# Altium schematic symbol library Schlib1.SchLib: 44 symbols (part 1 of 4)
Pins are listed as number, name and electrical type; pins without a type are passive.

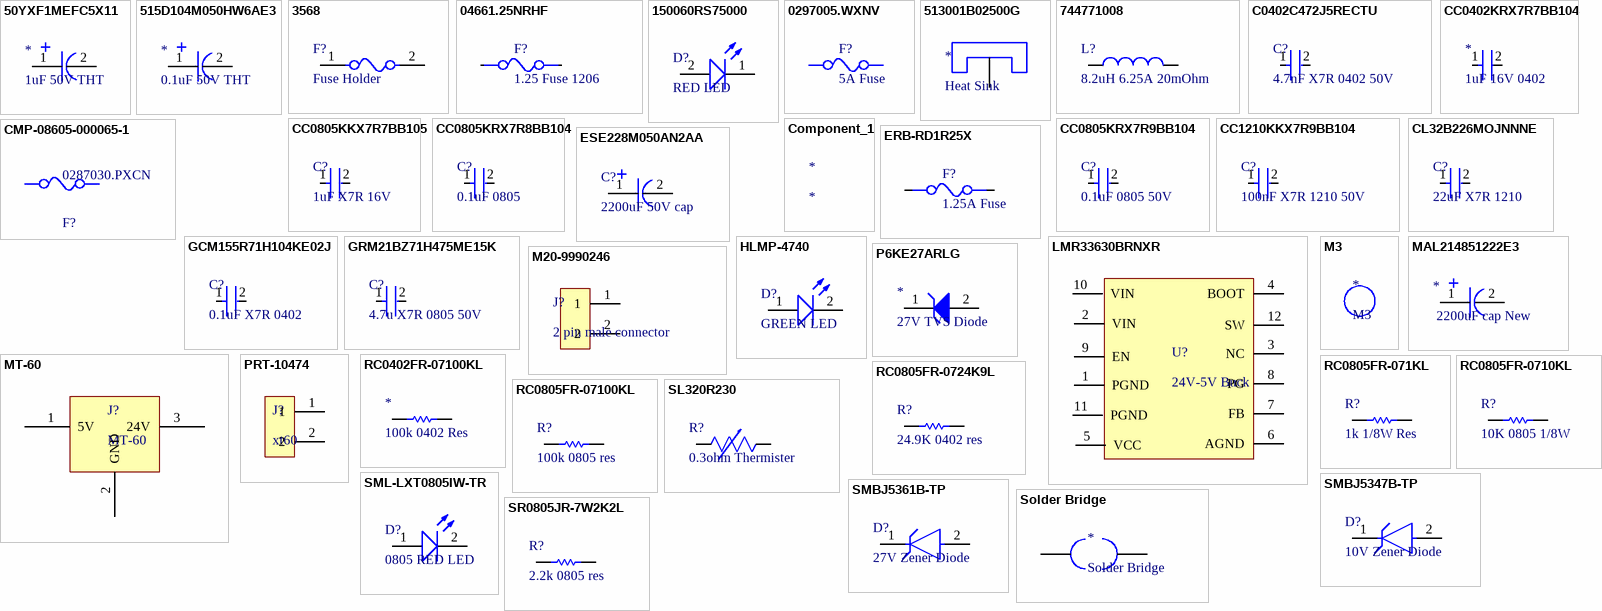
[diagram p0: symbols 50YXF1MEFC5X11 to SR0805JR-7W2K2L]

## 50YXF1MEFC5X11
designator *, comment 1uF 50V THT
1uF 50V ±20% Plugin, D5xL11mm Aluminum Electrolytic Capacitors - Leaded ROHS; Manufacturer: Rubycon; Manufacturer Part Number: 50YXF1MEFC5X11; Value: 1µF; Impedance: 4Ω; Leakage Current: 3µA; Life (Hours): 5000hours; Ripple Current: 10.5mA; Supplier: Farnell; Supplier Part Number: 50YXF1MEFC5X11; RoHS: Compliant; Category: Aluminum Electrolytic Capacitors; Pricing: 5=0.121, 50=0.082, 250=0.0753, 500=0.0664 (GBP); Case/Package: Radial; Diameter: 5mm; Height: 11mm; Height - Seated (Max): 12.4968mm; Lead Pitch: 2mm; Length: 11mm; Lifecycle Status: Obsolete; Max Operating Temperature: 105°C; Min Operating Temperature: -40°C; Mounting Technology: Through Hole; Number of Terminals: 2; Packaging: Bulk; Radiation Hardening: No; REACH SVHC: Yes; Terminal Pitch: 2mm; Termination: Radial; Tolerance: 20%; Voltage Rating: 50V; Voltage Rating (DC): 50V; ComponentLink1URL: https://datasheet.octopart.com:443/50YXF1MEFC5X11-Rubycon-datasheet-182101233.pdf?src-supplier=IHS; ComponentLink1Description: https://datasheet.octopart.com:443/50YXF1MEFC5X11-Rubycon-datasheet-182101233.pdf?src-supplier=IHS; ComponentLink2URL: https://datasheet.octopart.com:443/50YXF1MEFC5X11-Rubycon-datasheet-86451560.pdf?src-supplier=Master+Electronics; ComponentLink2Description: https://datasheet.octopart.com:443/50YXF1MEFC5X11-Rubycon-datasheet-86451560.pdf?src-supplier=Master+Electronics; ComponentLink3URL: https://datasheet.octopart.com:443/50YXF1MEFC5X11-Rubycon-datasheet-12512315.pdf?src-supplier=LKR; ComponentLink3Description: https://datasheet.octopart.com:443/50YXF1MEFC5X11-Rubycon-datasheet-12512315.pdf?src-supplier=LKR; ComponentLink4URL: https://datasheet.octopart.com:443/50YXF1MEFC5X11-Rubycon-datasheet-41194730.pdf?src-supplier=Newark; ComponentLink4Description: https://datasheet.octopart.com:443/50YXF1MEFC5X11-Rubycon-datasheet-41194730.pdf?src-supplier=Newark; ComponentLink5URL: https://datasheet.octopart.com:443/50YXF1MEFC5X11-Rubycon-datasheet-11966930.pdf?src-supplier=Newark; ComponentLink5Description: https://datasheet.octopart.com:443/50YXF1MEFC5X11-Rubycon-datasheet-11966930.pdf?src-supplier=Newark; ComponentLink6URL: https://datasheet.octopart.com:443/50YXF1MEFC5X11-Rubycon-datasheet-10032391.pdf?src-supplier=Newark; ComponentLink6Description: https://datasheet.octopart.com:443/50YXF1MEFC5X11-Rubycon-datasheet-10032391.pdf?src-supplier=Newark; ComponentLink7URL: https://datasheet.octopart.com:443/50YXF1MEFC5X11-Rubycon-datasheet-8447018.pdf?src-supplier=Newark; ComponentLink7Description: https://datasheet.octopart.com:443/50YXF1MEFC5X11-Rubycon-datasheet-8447018.pdf?src-supplier=Newark; ComponentLink8URL: https://datasheet.octopart.com:443/50YXF1MEFC5X11-Rubycon-datasheet-5377913.pdf?src-supplier=Newark; ComponentLink8Description: https://datasheet.octopart.com:443/50YXF1MEFC5X11-Rubycon-datasheet-5377913.pdf?src-supplier=Newark; ComponentLink9Description: New link; ComponentLink9URL: *; LCSC Part No: C2927584
footprint capacitor Through Hole Small
pins: 1, 2

## 515D104M050HW6AE3
designator *, comment 0.1uF 50V THT
Cap 0.1UF 50V 4X7 85C Rdl; Manufacturer: Vishay; Manufacturer Part Number: 515D104M050HW6AE3; Value: 100nF; Life (Hours): 2000hours; Polarity: Polar; Tolerance: 20%; Supplier: Avnet; Supplier Part Number: 515D104M050HW6AE3; RoHS: Compliant; Category: Aluminum Electrolytic Capacitors; Pricing: 5000=0.10011, 10000=0.09869, 20000=0.09727, 40000=0.09585, 80000=0.09479 (USD); Case/Package: Radial; Height - Seated (Max): 7.0104mm; Lead Pitch: 1.4986mm; Max Operating Temperature: 85°C; Min Operating Temperature: -40°C; Mounting Technology: Through Hole; Packaging: Bulk; Voltage Rating: 50V; ComponentLink1URL: http://sigma.octopart.com:80/rohs_statement/Vishay-company-15.pdf?src-supplier=Compliance+Statements; ComponentLink1Description: http://sigma.octopart.com:80/rohs_statement/Vishay-company-15.pdf?src-supplier=Compliance+Statements
footprint capacitor Through Hole Small
pins: 1, 2

## 3568
designator F?, comment Fuse Holder
Holder; Fuse; Auto Blade; Mini; 500VAC; 30A; PC Pin Terminal; Nylon 4/6 Holder; Black; Manufacturer: Keystone; Manufacturer Part Number: 3568; Approvals: UL; Current Rating: 20A; Illumination Type: Illuminated; Material: Brass, Nylon, Tin; Number of Circuits: 1; Voltage: 500V; Supplier: Future Electronics; Supplier Part Number: 3568; RoHS: Compliant; Category: Fuse Holders; Stock: 77707; Pricing: 30=0.74, 100=0.72, 250=0.71, 1000=0.69, 2500=0.66 (USD); Body Material: Nylon; Color: Black; Contact Material: Brass; Contact Plating: Tin; Country of Origin: USA; Depth: 6.73mm; Flammability Rating: UL94 V-0; Fuse Current: 20A; Introduction Date: 2015-08-28; Lead Free: Lead Free; Length: 16mm; Lifecycle Status: Production; Max Operating Temperature: 145°C; Min Operating Temperature: -50°C; Mounting Technology: PCB, Vertical; Number of Poles: 1; Orientation: Vertical; REACH SVHC: Yes; Termination: PC Pin; Voltage Rating (AC): 500V; ComponentLink1URL: https://datasheet.octopart.com:443/3568-Keystone-datasheet-137335555.pdf?src-supplier=Upverter; ComponentLink1Description: https://datasheet.octopart.com:443/3568-Keystone-datasheet-137335555.pdf?src-supplier=Upverter; ComponentLink2URL: https://datasheet.octopart.com:443/3568-Keystone-datasheet-15715963.pdf?src-supplier=Future+Electronics; ComponentLink2Description: https://datasheet.octopart.com:443/3568-Keystone-datasheet-15715963.pdf?src-supplier=Future+Electronics; ComponentLink3URL: https://datasheet.octopart.com:443/3568-Keystone-datasheet-7589202.pdf?src-supplier=Future+Electronics; ComponentLink3Description: https://datasheet.octopart.com:443/3568-Keystone-datasheet-7589202.pdf?src-supplier=Future+Electronics; ComponentLink4URL: https://datasheet.octopart.com:443/3568-Keystone-datasheet-137916591.pdf?src-supplier=Future+Electronics; ComponentLink4Description: https://datasheet.octopart.com:443/3568-Keystone-datasheet-137916591.pdf?src-supplier=Future+Electronics; ComponentLink5URL: https://datasheet.octopart.com:443/3568-Keystone-datasheet-21202853.pdf?src-supplier=element14+APAC; ComponentLink5Description: https://datasheet.octopart.com:443/3568-Keystone-datasheet-21202853.pdf?src-supplier=element14+APAC; ComponentLink6URL: https://datasheet.octopart.com:443/3568-Keystone-datasheet-10928834.pdf?src-supplier=RS+(Formerly+Allied+Electronics); ComponentLink6Description: https://datasheet.octopart.com:443/3568-Keystone-datasheet-10928834.pdf?src-supplier=RS+(Formerly+Allied+Electronics); ComponentLink7URL: https://datasheet.octopart.com:443/3568-Keystone-datasheet-110727069.pdf?src-supplier=RS+(Formerly+Allied+Electronics); ComponentLink7Description: https://datasheet.octopart.com:443/3568-Keystone-datasheet-110727069.pdf?src-supplier=RS+(Formerly+Allied+Electronics); ComponentLink8URL: https://datasheet.octopart.com:443/3568-Keystone-datasheet-17577430.pdf?src-supplier=TME; ComponentLink8Description: https://datasheet.octopart.com:443/3568-Keystone-datasheet-17577430.pdf?src-supplier=TME; LCSC Part No: C5249699
footprint FUSE HOLDER
pins: 1, 2

## 04661.25NRHF
designator F?, comment 1.25 Fuse 1206
Fuse 63V Fa Halogen Free Slim 1206 1.25A/ T&r Rohs Compliant: Yes |Littelfuse 04661.25NRHF; Current Rating: 1.25A; Power Dissipation: 107.1mW; Ratings: CE, CSA, TUV; Value: 57mΩ; Time to Trip: 200ms; Supplier: DigiKey; Supplier Part Number: F11418CT-ND; Manufacturer: Littelfuse; Manufacturer Part Number: 04661.25NRHF; RoHS: Compliant; Category: Fuses; Stock: 8292; Pricing: 1=1.14, 5=0.946, 10=0.873, 50=0.7246, 100=0.6685, 250=0.60084, 500=0.55408, 1000=0.51077 (USD); China RoHS: Compliant; Export Control Classification Number (ECCN) Code: EAR99; Height: 584µm; Harmonized Tariff Schedule (HTS) Code: 8536.10.00.40; Introduction Date: 2008-01-16; Length: 3.175mm; Lifecycle Status: Production; Max Operating Temperature: 90°C; Min Operating Temperature: -55°C; Mounting Technology: Surface Mount; REACH SVHC: No; Voltage Rating (AC): 63V; Voltage Rating (DC): 63V; ComponentLink1URL: https://datasheet.octopart.com:443/04661.25NRHF-Littelfuse-datasheet-166915437.pdf?src-supplier=IHS; ComponentLink1Description: https://datasheet.octopart.com:443/04661.25NRHF-Littelfuse-datasheet-166915437.pdf?src-supplier=IHS; ComponentLink2URL: https://datasheet.octopart.com:443/04661.25NRHF-Littelfuse-datasheet-120226766.pdf?src-supplier=ODG+(Origin+Data+Global); ComponentLink2Description: https://datasheet.octopart.com:443/04661.25NRHF-Littelfuse-datasheet-120226766.pdf?src-supplier=ODG+(Origin+Data+Global); ComponentLink3URL: https://datasheet.octopart.com:443/04661.25NRHF-Littelfuse-datasheet-170674135.pdf?src-supplier=JRH+Electronics; ComponentLink3Description: https://datasheet.octopart.com:443/04661.25NRHF-Littelfuse-datasheet-170674135.pdf?src-supplier=JRH+Electronics; ComponentLink4URL: https://datasheet.octopart.com:443/04661.25NRHF-Littelfuse-datasheet-178296321.pdf?src-supplier=Burklin+Elektronik; ComponentLink4Description: https://datasheet.octopart.com:443/04661.25NRHF-Littelfuse-datasheet-178296321.pdf?src-supplier=Burklin+Elektronik; ComponentLink5URL: https://datasheet.octopart.com:443/04661.25NRHF-Littelfuse-datasheet-183575681.pdf?src-supplier=Sager+Electronics; ComponentLink5Description: https://datasheet.octopart.com:443/04661.25NRHF-Littelfuse-datasheet-183575681.pdf?src-supplier=Sager+Electronics; ComponentLink6URL: https://datasheet.octopart.com:443/04661.25NRHF-Littelfuse-datasheet-24896369.pdf?src-supplier=Fuses+Unlimited; ComponentLink6Description: https://datasheet.octopart.com:443/04661.25NRHF-Littelfuse-datasheet-24896369.pdf?src-supplier=Fuses+Unlimited; LCSC Part No: C187601
footprint Fuse 1206
pins: 1, 2

## 150060RS75000
designator D?, comment RED LED
LED Low-Power Uni-Color Red 630nm 2V 2-Pin Chip 0603(1608Metric) T/R; Manufacturer: Wurth Elektronik; Manufacturer Part Number: 150060RS75000; Dominant Wavelength: 625nm; Forward Current: 100mA; Lens Style: Clear, Rectangular; Luminous Intensity: 250mcd; Max Junction Temperature (Tj): 95°C; Max Reverse Voltage (DC): 5V; Power Dissipation: 72mW; Test Current: 20mA; Viewing Angle: 140°; Supplier: DigiKey; Supplier Part Number: 732-4978-6-ND; RoHS: Compliant; Category: LEDs; Stock: 362455; Pricing: 1=0.15, 50=0.142, 100=0.1239 (USD); Case/Package: 0603; Case Code (Imperial): 0603; Case Code (Metric): 1608; Color: Red; Forward Voltage: 2V; Height: 700µm; Length: 1.6mm; Max Operating Temperature: 85°C; Min Operating Temperature: -40°C; Mounting Technology: Surface Mount; Packaging: Tape and Reel; Peak Wavelength: 630nm; REACH SVHC: Unknown; Reverse Voltage: 5V; Wavelength: 625nm; Width: 800µm; ComponentLink1URL: https://datasheet.octopart.com:443/150060RS75000-W%C3%BCrth-Elektronik-datasheet-141913886.pdf?src-supplier=Upverter; ComponentLink1Description: https://datasheet.octopart.com:443/150060RS75000-W%C3%BCrth-Elektronik-datasheet-141913886.pdf?src-supplier=Upverter; ComponentLink2URL: https://datasheet.octopart.com:443/150060RS75000-W%C3%BCrth-Elektronik-datasheet-15983787.pdf?src-supplier=Upverter; ComponentLink2Description: https://datasheet.octopart.com:443/150060RS75000-W%C3%BCrth-Elektronik-datasheet-15983787.pdf?src-supplier=Upverter; ComponentLink3URL: https://datasheet.octopart.com:443/150060RS75000-W%C3%BCrth-Elektronik-datasheet-140603451.pdf?src-supplier=Wurth+Elektronik; ComponentLink3Description: https://datasheet.octopart.com:443/150060RS75000-W%C3%BCrth-Elektronik-datasheet-140603451.pdf?src-supplier=Wurth+Elektronik; ComponentLink4URL: https://datasheet.octopart.com:443/150060RS75000-W%C3%BCrth-Elektronik-datasheet-41196438.pdf?src-supplier=Newark; ComponentLink4Description: https://datasheet.octopart.com:443/150060RS75000-W%C3%BCrth-Elektronik-datasheet-41196438.pdf?src-supplier=Newark; LCSC Part No: C19171390
footprint red led (SMD Mono-color Chip LED, body 1.60 x 0.80 mm)
pins: 1 K, 2 A

## 0297005.WXNV
designator F?, comment 5A Fuse  (mechanical)
Fuse Blade 5A 32V Socket 10.9 X 3.8 X 8.8mm Polyamide 66 Automotive UL; Manufacturer: Littelfuse; Manufacturer Part Number: 0297005.WXNV; Body Material: Thermoplastic; Color: Tan, Beige; Value: 17.75mΩ; Time to Trip: 30ms; Supplier: Arrow Electronics; Supplier Part Number: 0297005.WXNV; RoHS: Compliant; Category: Fuses; Stock: 153681; Pricing: 1=0.1604, 5=0.1552, 10=0.1324 (USD); Contact Plating: Silver; Current Rating: 5A; Depth: 3.8mm; Fuse Current: 5A; Height: 8.8mm; Lead Free: Lead Free; Length: 10.9mm; Lifecycle Status: Production; Max Operating Temperature: 125°C; Min Operating Temperature: -40°C; Mounting Technology: Holder, Socket; Pins: 2; Packaging: Bulk; Radiation Hardening: No; REACH SVHC: Yes; Voltage Rating: 32V; Voltage Rating (AC): 32V; Voltage Rating (DC): 32V; Working Voltage: 32V; ComponentLink1URL: https://datasheet.octopart.com:443/0297005.WXNV-Littelfuse-datasheet-169126209.pdf?src-supplier=IHS; ComponentLink1Description: https://datasheet.octopart.com:443/0297005.WXNV-Littelfuse-datasheet-169126209.pdf?src-supplier=IHS; ComponentLink2URL: https://datasheet.octopart.com:443/0297005.WXNV-Littelfuse-datasheet-66660011.pdf?src-supplier=Burklin+Elektronik; ComponentLink2Description: https://datasheet.octopart.com:443/0297005.WXNV-Littelfuse-datasheet-66660011.pdf?src-supplier=Burklin+Elektronik; ComponentLink3URL: https://datasheet.octopart.com:443/0297005.WXNV-Littelfuse-datasheet-8702453.pdf?src-supplier=Farnell; ComponentLink3Description: https://datasheet.octopart.com:443/0297005.WXNV-Littelfuse-datasheet-8702453.pdf?src-supplier=Farnell; ComponentLink4URL: https://datasheet.octopart.com:443/0297005.WXNV-Littelfuse-datasheet-179407513.pdf?src-supplier=Electro+Sonic; ComponentLink4Description: https://datasheet.octopart.com:443/0297005.WXNV-Littelfuse-datasheet-179407513.pdf?src-supplier=Electro+Sonic; ComponentLink5URL: https://datasheet.octopart.com:443/0297005.WXNV-Littelfuse-datasheet-135736.pdf?src-supplier=Agility; ComponentLink5Description: https://datasheet.octopart.com:443/0297005.WXNV-Littelfuse-datasheet-135736.pdf?src-supplier=Agility; ComponentLink6URL: https://datasheet.octopart.com:443/0297005.WXNV-Littelfuse-datasheet-530200.pdf?src-supplier=Newark; ComponentLink6Description: https://datasheet.octopart.com:443/0297005.WXNV-Littelfuse-datasheet-530200.pdf?src-supplier=Newark; ComponentLink7URL: https://datasheet.octopart.com:443/0297005.WXNV-Littelfuse-datasheet-28809134.pdf?src-supplier=Future+Electronics; ComponentLink7Description: https://datasheet.octopart.com:443/0297005.WXNV-Littelfuse-datasheet-28809134.pdf?src-supplier=Future+Electronics; ComponentLink8URL: https://datasheet.octopart.com:443/0297005.WXNV-Littelfuse-datasheet-184785010.pdf?src-supplier=Master+Electronics; ComponentLink8Description: https://datasheet.octopart.com:443/0297005.WXNV-Littelfuse-datasheet-184785010.pdf?src-supplier=Master+Electronics; ComponentLink9URL: https://datasheet.octopart.com:443/0297005.WXNV-Littelfuse-datasheet-43098904.pdf?src-supplier=RS+(Formerly+Allied+Electronics); ComponentLink9Description: https://datasheet.octopart.com:443/0297005.WXNV-Littelfuse-datasheet-43098904.pdf?src-supplier=RS+(Formerly+Allied+Electronics); ComponentLink10URL: https://datasheet.octopart.com:443/0297005.WXNV-Littelfuse-datasheet-33028620.pdf?src-supplier=RS+(Formerly+Allied+Electronics); ComponentLink10Description: https://datasheet.octopart.com:443/0297005.WXNV-Littelfuse-datasheet-33028620.pdf?src-supplier=RS+(Formerly+Allied+Electronics); ComponentLink11URL: https://datasheet.octopart.com:443/0297005.WXNV-Littelfuse-datasheet-49878456.pdf?src-supplier=TME; ComponentLink11Description: https://datasheet.octopart.com:443/0297005.WXNV-Littelfuse-datasheet-49878456.pdf?src-supplier=TME; ComponentLink12URL: https://datasheet.octopart.com:443/0297005.WXNV-Littelfuse-datasheet-817.pdf?src-supplier=DigiKey; ComponentLink12Description: https://datasheet.octopart.com:443/0297005.WXNV-Littelfuse-datasheet-817.pdf?src-supplier=DigiKey; LCSC Part No: C151093
footprint 5A Fuse

## 513001B02500G
designator *, comment Heat Sink  (mechanical)
TO-220 Package 13.4 C/W Thermal Resistance Large Radial Fin Heat Sink; Manufacturer: Aavid Thermalloy; Manufacturer Part Number: 513001B02500G; Natural Thermal Resistance: 13.4°C/W; Shape: Fins, Rectangular; Thermal Resistance @ Forced Air Flow (100 LFM): 4°C/W; Supplier: Mouser; Supplier Part Number: 532-513001B25G; RoHS: Compliant; Category: Heat Sinks; Stock: 6491; Pricing: 1=1.68, 10=1.53, 50=1.45, 100=1.37, 1000=1.09, 10000=1.08 (USD); Case/Package: TO-218; Color: Black; Depth: 12.7mm; Export Control Classification Number (ECCN) Code: EAR99; Height: 25.4mm; Height Off Base: 12.7mm; Harmonized Tariff Schedule (HTS) Code: 8541.90.00.00; Introduction Date: 2012-05-15; Lead Free: Lead Free; Length: 34.92mm; Lifecycle Status: Production; Material: Aluminium, Anodized; Mounting Technology: Through Hole; Packaging: Box; Type: Passive; Width: 12.7mm; ComponentLink1URL: https://datasheet.octopart.com:443/513001B02500G-Aavid-Thermalloy-datasheet-111182914.pdf?src-supplier=IHS; ComponentLink1Description: https://datasheet.octopart.com:443/513001B02500G-Aavid-Thermalloy-datasheet-111182914.pdf?src-supplier=IHS; ComponentLink2URL: https://datasheet.octopart.com:443/513001B02500G-Aavid-Thermalloy-datasheet-182190711.pdf?src-supplier=IHS; ComponentLink2Description: https://datasheet.octopart.com:443/513001B02500G-Aavid-Thermalloy-datasheet-182190711.pdf?src-supplier=IHS; ComponentLink3URL: https://datasheet.octopart.com:443/513001B02500G-Aavid-Thermalloy-datasheet-116638641.pdf?src-supplier=Sager+Electronics; ComponentLink3Description: https://datasheet.octopart.com:443/513001B02500G-Aavid-Thermalloy-datasheet-116638641.pdf?src-supplier=Sager+Electronics; ComponentLink4URL: https://datasheet.octopart.com:443/513001B02500G-Aavid-Thermalloy-datasheet-12547168.pdf?src-supplier=Future+Electronics; ComponentLink4Description: https://datasheet.octopart.com:443/513001B02500G-Aavid-Thermalloy-datasheet-12547168.pdf?src-supplier=Future+Electronics; ComponentLink5URL: https://datasheet.octopart.com:443/513001B02500G-Aavid-Thermalloy-datasheet-12511871.pdf?src-supplier=Future+Electronics; ComponentLink5Description: https://datasheet.octopart.com:443/513001B02500G-Aavid-Thermalloy-datasheet-12511871.pdf?src-supplier=Future+Electronics; ComponentLink6URL: http://sigma.octopart.com:80/conflict_mineral_statement/Aavid-Thermalloy-company-26.pdf?src-supplier=Compliance+Statements; ComponentLink6Description: http://sigma.octopart.com:80/conflict_mineral_statement/Aavid-Thermalloy-company-26.pdf?src-supplier=Compliance+Statements
footprint Heat Sink
pins: 1

## 744771008
designator L?, comment 8.2uH 6.25A 20mOhm
Power Inductor, SMT, 1260, 8.2 Uh, 6.25 A, .02 Ohm, Fixed, We-pd Series; Manufacturer: Wurth Elektronik; Manufacturer Part Number: 744771008; Core Material: Ferrite; Current Rating: 6.2A; DC Resistance (DCR): 15.5mΩ; Value: 8.2µH; Inductance Tolerance: 20%; Self Resonant Frequency: 25MHz; ESR: 20mΩ; Shielding: Shielded; Test Frequency: 1kHz; Supplier: DigiKey; Supplier Part Number: 732-1207-1-ND; RoHS: Compliant; Category: Fixed Inductors; Stock: 330; Pricing: 1=2.26, 10=2.172, 50=1.961, 100=1.759, 250=1.61 (USD); Ambient Temperature Range High: 85°C; Ambient Temperature Range Low: -40°C; Case/Package: Nonstandard; Composition: Wirewound; Depth: 12mm; Height: 6mm; Height - Seated (Max): 5.9944mm; Lead Free: Lead Free; Length: 12mm; Max DC Current: 6.25A; Max Operating Temperature: 125°C; Min Operating Temperature: -40°C; Mounting Technology: Surface Mount; Pins: 2; RMS Current (Irms): 6.25A; Saturation Current: 6.2A; Termination: SMD/SMT; Tolerance: 20%; Weight: 4.535924g; Width: 12mm; ComponentLink1URL: https://datasheet.octopart.com:443/744771008-Wurth-Elektronik-datasheet-168492728.pdf?src-supplier=Wurth+Elektronik; ComponentLink1Description: https://datasheet.octopart.com:443/744771008-Wurth-Elektronik-datasheet-168492728.pdf?src-supplier=Wurth+Elektronik; ComponentLink2URL: https://datasheet.octopart.com:443/744771008-W%C3%BCrth-Elektronik-datasheet-142051527.pdf?src-supplier=Farnell; ComponentLink2Description: https://datasheet.octopart.com:443/744771008-W%C3%BCrth-Elektronik-datasheet-142051527.pdf?src-supplier=Farnell; ComponentLink3URL: https://datasheet.octopart.com:443/744771008-W%C3%BCrth-Elektronik-Midcom-datasheet-5337310.pdf?src-supplier=Farnell; ComponentLink3Description: https://datasheet.octopart.com:443/744771008-W%C3%BCrth-Elektronik-Midcom-datasheet-5337310.pdf?src-supplier=Farnell; ComponentLink4URL: https://datasheet.octopart.com:443/744771008-W%C3%BCrth-Elektronik-datasheet-17695912.pdf?src-supplier=HQonline; ComponentLink4Description: https://datasheet.octopart.com:443/744771008-W%C3%BCrth-Elektronik-datasheet-17695912.pdf?src-supplier=HQonline; ComponentLink5URL: https://datasheet.octopart.com:443/744771008-W%C3%BCrth-Elektronik-datasheet-41343275.pdf?src-supplier=element14+APAC; ComponentLink5Description: https://datasheet.octopart.com:443/744771008-W%C3%BCrth-Elektronik-datasheet-41343275.pdf?src-supplier=element14+APAC; LCSC Part No: C504027
footprint inductor (SMT Shielded Power Inductor, 2-leads, body 12x12mm)
pins: 1, 2

## C0402C472J5RECTU
designator C?, comment 4.7nF X7R 0402 50V
Multilayer Ceramic Capacitors MLCC - SMD/SMT 50V 4700pF X7R 0402 5%; Manufacturer: Yageo Group; Manufacturer Part Number: C0402C472J5RECTU; Supplier: DigiKey; Supplier Part Number: 399-C0402C472J5RECTUCT-ND; RoHS: Compliant; Category: Ceramic Capacitors; Stock: 10769; Pricing: 1=0.13, 10=0.072, 50=0.0504, 100=0.0437, 500=0.03246, 1000=0.02899, 2500=0.02536, 5000=0.02317 (USD); Value: 4.7nF; Case/Package: 0402; China RoHS: Compliant; Country of Origin: Mexico; Dielectric Material: Ceramic; Export Control Classification Number (ECCN) Code: EAR99; Height: 500µm; Harmonized Tariff Schedule (HTS) Code: 8532.24.00.20; Introduction Date: 2018-03-06; Length: 1mm; Lifecycle Status: Production; Max Operating Temperature: 125°C; Min Operating Temperature: -55°C; Mounting Technology: Surface Mount; Number of Terminals: 2; REACH SVHC: Yes; Voltage Rating (DC): 50V; Width: 500µm; ComponentLink1URL: https://datasheet.octopart.com:443/C0402C472J5RECTU-KEMET-datasheet-178568699.pdf?src-supplier=IHS; ComponentLink1Description: https://datasheet.octopart.com:443/C0402C472J5RECTU-KEMET-datasheet-178568699.pdf?src-supplier=IHS; ComponentLink2URL: https://datasheet.octopart.com:443/C0402C472J5RECTU-KEMET-datasheet-189885673.pdf?src-supplier=element14+APAC; ComponentLink2Description: https://datasheet.octopart.com:443/C0402C472J5RECTU-KEMET-datasheet-189885673.pdf?src-supplier=element14+APAC
footprint 0402 capacitor
pins: 1, 2

## CC0402KRX7R7BB104
designator *, comment 1uF 16V 0402
16V 1uF X5R 卤10% 0402 Multilayer Ceramic Capacitors MLCC - SMD/SMT ROHS; Manufacturer: Yageo Group; Manufacturer Part Number: CC0402KRX7R7BB104; Value: 100nF; Dielectric: X7R; Temperature Coefficient: 30ppm/°C; Tolerance: 10%; Supplier: Future Electronics; Supplier Part Number: CC0402KRX7R7BB104; RoHS: Compliant; Category: Ceramic Capacitors; Stock: 75670000; Pricing: 20000=0.0011, 100000=0.001, 250000=0.001, 750000=0.001, 1500000=0.0009 (USD); Case/Package: 0402; Case Code (Imperial): 0402; Case Code (Metric): 1005; China RoHS: Compliant; Composition: Ceramic; Country of Origin: Mainland China, Taiwan; Depth: 500µm; Dielectric Material: Ceramic; Export Control Classification Number (ECCN) Code: EAR99; Halogen Free: Halogen Free; Height: 500µm; Harmonized Tariff Schedule (HTS) Code: 8532.24.00.20; Introduction Date: 2009-04-17; Lead Free: Lead Free; Length: 1mm; Lifecycle Status: Production; Material: Ceramic; Max Operating Temperature: 125°C; Min Operating Temperature: -55°C; Mounting Technology: Surface Mount; Pins: 2; Number of Terminals: 2; Radiation Hardening: No; REACH SVHC: Yes; Schedule B: 8532240020, 8532240020|8532240020, 8532240020|8532240020|8532240020, 8532240020|8532240020|8532240020|8532240020; Termination: SMD/SMT; Thickness: 558.8µm; Voltage: 16V; Voltage Rating: 16V; Voltage Rating (AC): 16V; Voltage Rating (DC): 16V; Width: 500µm; ComponentLink1URL: https://datasheet.octopart.com:443/CC0402KRX7R7BB104-Yageo-datasheet-177165144.pdf?src-supplier=IHS; ComponentLink1Description: https://datasheet.octopart.com:443/CC0402KRX7R7BB104-Yageo-datasheet-177165144.pdf?src-supplier=IHS; ComponentLink2URL: https://datasheet.octopart.com/CC0402KRX7R7BB104-Yageo-datasheet-10883670.pdf; ComponentLink2Description: https://datasheet.octopart.com/CC0402KRX7R7BB104-Yageo-datasheet-10883670.pdf; ComponentLink3URL: https://datasheet.octopart.com/CC0402KRX7R7BB104-Yageo-datasheet-12526321.pdf; ComponentLink3Description: https://datasheet.octopart.com/CC0402KRX7R7BB104-Yageo-datasheet-12526321.pdf; ComponentLink4URL: https://datasheet.octopart.com:443/CC0402KRX7R7BB104-Yageo-datasheet-82288757.pdf?src-supplier=Upverter; ComponentLink4Description: https://datasheet.octopart.com:443/CC0402KRX7R7BB104-Yageo-datasheet-82288757.pdf?src-supplier=Upverter; ComponentLink5URL: https://datasheet.octopart.com:443/CC0402KRX7R7BB104-Yageo-datasheet-78855684.pdf?src-supplier=Upverter; ComponentLink5Description: https://datasheet.octopart.com:443/CC0402KRX7R7BB104-Yageo-datasheet-78855684.pdf?src-supplier=Upverter; ComponentLink6URL: https://datasheet.octopart.com:443/CC0402KRX7R7BB104-Yageo-datasheet-68298032.pdf?src-supplier=Upverter; ComponentLink6Description: https://datasheet.octopart.com:443/CC0402KRX7R7BB104-Yageo-datasheet-68298032.pdf?src-supplier=Upverter; ComponentLink7URL: https://datasheet.octopart.com:443/CC0402KRX7R7BB104-Yageo-datasheet-181967370.pdf?src-supplier=Newark; ComponentLink7Description: https://datasheet.octopart.com:443/CC0402KRX7R7BB104-Yageo-datasheet-181967370.pdf?src-supplier=Newark; ComponentLink8URL: https://datasheet.octopart.com:443/CC0402KRX7R7BB104-Yageo-datasheet-181967368.pdf?src-supplier=Newark; ComponentLink8Description: https://datasheet.octopart.com:443/CC0402KRX7R7BB104-Yageo-datasheet-181967368.pdf?src-supplier=Newark; ComponentLink9URL: https://datasheet.octopart.com:443/CC0402KRX7R7BB104-Yageo-datasheet-499490.pdf?src-supplier=Newark; ComponentLink9Description: https://datasheet.octopart.com:443/CC0402KRX7R7BB104-Yageo-datasheet-499490.pdf?src-supplier=Newark; ComponentLink10URL: https://datasheet.octopart.com:443/CC0402KRX7R7BB104-Yageo-datasheet-519481.pdf?src-supplier=Newark; ComponentLink10Description: https://datasheet.octopart.com:443/CC0402KRX7R7BB104-Yageo-datasheet-519481.pdf?src-supplier=Newark; ComponentLink11URL: https://datasheet.octopart.com:443/CC0402KRX7R7BB104-Yageo-datasheet-182050774.pdf?src-supplier=Newark; ComponentLink11Description: https://datasheet.octopart.com:443/CC0402KRX7R7BB104-Yageo-datasheet-182050774.pdf?src-supplier=Newark; ComponentLink12URL: https://datasheet.octopart.com:443/CC0402KRX7R7BB104-Yageo-datasheet-62336348.pdf?src-supplier=Farnell; ComponentLink12Description: https://datasheet.octopart.com:443/CC0402KRX7R7BB104-Yageo-datasheet-62336348.pdf?src-supplier=Farnell; ComponentLink13URL: https://datasheet.octopart.com:443/CC0402KRX7R7BB104-Yageo-datasheet-151948686.pdf?src-supplier=Farnell; ComponentLink13Description: https://datasheet.octopart.com:443/CC0402KRX7R7BB104-Yageo-datasheet-151948686.pdf?src-supplier=Farnell; ComponentLink14URL: https://datasheet.octopart.com:443/CC0402KRX7R7BB104-Yageo-Group-datasheet-188689702.pdf?src-supplier=Farnell; ComponentLink14Description: https://datasheet.octopart.com:443/CC0402KRX7R7BB104-Yageo-Group-datasheet-188689702.pdf?src-supplier=Farnell; ComponentLink15URL: https://datasheet.octopart.com:443/CC0402KRX7R7BB104-Yageo-datasheet-8359971.pdf?src-supplier=Farnell; ComponentLink15Description: https://datasheet.octopart.com:443/CC0402KRX7R7BB104-Yageo-datasheet-8359971.pdf?src-supplier=Farnell; ComponentLink16URL: https://datasheet.octopart.com:443/CC0402KRX7R7BB104-Yageo-datasheet-500777.pdf?src-supplier=Farnell; ComponentLink16Description: https://datasheet.octopart.com:443/CC0402KRX7R7BB104-Yageo-datasheet-500777.pdf?src-supplier=Farnell; ComponentLink17URL: https://datasheet.octopart.com:443/CC0402KRX7R7BB104-Yageo-datasheet-137700084.pdf?src-supplier=Burklin+Elektronik; ComponentLink17Description: https://datasheet.octopart.com:443/CC0402KRX7R7BB104-Yageo-datasheet-137700084.pdf?src-supplier=Burklin+Elektronik; ComponentLink18URL: https://datasheet.octopart.com:443/CC0402KRX7R7BB104-Yageo-datasheet-27626582.pdf?src-supplier=Future+Electronics; ComponentLink18Description: https://datasheet.octopart.com:443/CC0402KRX7R7BB104-Yageo-datasheet-27626582.pdf?src-supplier=Future+Electronics; ComponentLink19URL: https://datasheet.octopart.com:443/CC0402KRX7R7BB104-Yageo-datasheet-166511530.pdf?src-supplier=Future+Electronics; ComponentLink19Description: https://datasheet.octopart.com:443/CC0402KRX7R7BB104-Yageo-datasheet-166511530.pdf?src-supplier=Future+Electronics; ComponentLink20URL: https://datasheet.octopart.com:443/CC0402KRX7R7BB104-Yageo-datasheet-137700082.pdf?src-supplier=Future+Electronics; ComponentLink20Description: https://datasheet.octopart.com:443/CC0402KRX7R7BB104-Yageo-datasheet-137700082.pdf?src-supplier=Future+Electronics; ComponentLink21URL: https://datasheet.octopart.com:443/CC0402KRX7R7BB104-Yageo-datasheet-24578986.pdf?src-supplier=Future+Electronics; ComponentLink21Description: https://datasheet.octopart.com:443/CC0402KRX7R7BB104-Yageo-datasheet-24578986.pdf?src-supplier=Future+Electronics; ComponentLink22URL: https://datasheet.octopart.com:443/CC0402KRX7R7BB104-Yageo-datasheet-10911834.pdf?src-supplier=Future+Electronics; ComponentLink22Description: https://datasheet.octopart.com:443/CC0402KRX7R7BB104-Yageo-datasheet-10911834.pdf?src-supplier=Future+Electronics; ComponentLink23URL: https://datasheet.octopart.com:443/CC0402KRX7R7BB104-Yageo-datasheet-8324442.pdf?src-supplier=Future+Electronics; ComponentLink23Description: https://datasheet.octopart.com:443/CC0402KRX7R7BB104-Yageo-datasheet-8324442.pdf?src-supplier=Future+Electronics; ComponentLink24URL: https://datasheet.octopart.com:443/CC0402KRX7R7BB104-Yageo-datasheet-15895757.pdf?src-supplier=element14+APAC; ComponentLink24Description: https://datasheet.octopart.com:443/CC0402KRX7R7BB104-Yageo-datasheet-15895757.pdf?src-supplier=element14+APAC; ComponentLink25URL: https://datasheet.octopart.com:443/CC0402KRX7R7BB104-Yageo-Group-datasheet-165992755.pdf?src-supplier=ODG+(Origin+Data+Global); ComponentLink25Description: https://datasheet.octopart.com:443/CC0402KRX7R7BB104-Yageo-Group-datasheet-165992755.pdf?src-supplier=ODG+(Origin+Data+Global); ComponentLink26URL: https://datasheet.octopart.com:443/CC0402KRX7R7BB104-Yageo-datasheet-140260305.pdf?src-supplier=SOS+electronic; ComponentLink26Description: https://datasheet.octopart.com:443/CC0402KRX7R7BB104-Yageo-datasheet-140260305.pdf?src-supplier=SOS+electronic; ComponentLink27URL: https://datasheet.octopart.com:443/CC0402KRX7R7BB104-Yageo-datasheet-151978998.pdf?src-supplier=SOS+electronic; ComponentLink27Description: https://datasheet.octopart.com:443/CC0402KRX7R7BB104-Yageo-datasheet-151978998.pdf?src-supplier=SOS+electronic; ComponentLink28URL: https://datasheet.octopart.com:443/CC0402KRX7R7BB104-Yageo-datasheet-8701427.pdf?src-supplier=element14; ComponentLink28Description: https://datasheet.octopart.com:443/CC0402KRX7R7BB104-Yageo-datasheet-8701427.pdf?src-supplier=element14; ComponentLink29URL: https://datasheet.octopart.com:443/CC0402KRX7R7BB104-Yageo-datasheet-5301394.pdf?src-supplier=element14; ComponentLink29Description: https://datasheet.octopart.com:443/CC0402KRX7R7BB104-Yageo-datasheet-5301394.pdf?src-supplier=element14; ComponentLink30URL: http://sigma.octopart.com:80/rohs_statement/Surface-Mount-Ceramic-Multilayer-Capacitors%3B-General-Purpose-%26-High-Capacitance-Class-2%2C-X7R-Yageo-family-124.pdf?src-supplier=Compliance+Statements; ComponentLink30Description: http://sigma.octopart.com:80/rohs_statement/Surface-Mount-Ceramic-Multilayer-Capacitors%3B-General-Purpose-%26-High-Capacitance-Class-2%2C-X7R-Yageo-family-124.pdf?src-supplier=Compliance+Statements; ComponentLink31URL: http://sigma.octopart.com:80/reach_statement/Surface-Mount-Ceramic-Multilayer-Capacitors%3B-General-Purpose-%26-High-Capacitance-Class-2%2C-X7R-Yageo-family-125.pdf?src-supplier=Compliance+Statements; ComponentLink31Description: http://sigma.octopart.com:80/reach_statement/Surface-Mount-Ceramic-Multilayer-Capacitors%3B-General-Purpose-%26-High-Capacitance-Class-2%2C-X7R-Yageo-family-125.pdf?src-supplier=Compliance+Statements; ComponentLink32URL: http://sigma.octopart.com:80/conflict_mineral_statement/Yageo-company-3.pdf?src-supplier=Compliance+Statements; ComponentLink32Description: http://sigma.octopart.com:80/conflict_mineral_statement/Yageo-company-3.pdf?src-supplier=Compliance+Statements; ComponentLink33URL: http://sigma.octopart.com:80/rohs_statement/Yageo-company-2.pdf?src-supplier=Compliance+Statements; ComponentLink33Description: http://sigma.octopart.com:80/rohs_statement/Yageo-company-2.pdf?src-supplier=Compliance+Statements; Contact Plating: Tin; ComponentLink34URL: https://datasheet.octopart.com:443/CL05A105KO5NNNC-Samsung-Electro-Mechanics-datasheet-181960514.pdf?src-supplier=IHS; ComponentLink34Description: https://datasheet.octopart.com:443/CL05A105KO5NNNC-Samsung-Electro-Mechanics-datasheet-181960514.pdf?src-supplier=IHS; ComponentLink35URL: https://datasheet.octopart.com:443/CL05A105KO5NNNC-Samsung-Electro-Mechanics-datasheet-136031720.pdf?src-supplier=Samsung+SCT; ComponentLink35Description: https://datasheet.octopart.com:443/CL05A105KO5NNNC-Samsung-Electro-Mechanics-datasheet-136031720.pdf?src-supplier=Samsung+SCT; ComponentLink36URL: https://datasheet.octopart.com:443/CL05A105KO5NNNC-Samsung-Electro-Mechanics-datasheet-11776774.pdf?src-supplier=Future+Electronics; ComponentLink36Description: https://datasheet.octopart.com:443/CL05A105KO5NNNC-Samsung-Electro-Mechanics-datasheet-11776774.pdf?src-supplier=Future+Electronics; ComponentLink37URL: https://datasheet.octopart.com:443/CL05A105KO5NNNC-Samsung-Electro-Mechanics-datasheet-110226202.pdf?src-supplier=Future+Electronics; ComponentLink37Description: https://datasheet.octopart.com:443/CL05A105KO5NNNC-Samsung-Electro-Mechanics-datasheet-110226202.pdf?src-supplier=Future+Electronics; ComponentLink38URL: https://datasheet.octopart.com:443/CL05A105KO5NNNC-Samsung-Electro-Mechanics-datasheet-81461590.pdf?src-supplier=Future+Electronics; ComponentLink38Description: https://datasheet.octopart.com:443/CL05A105KO5NNNC-Samsung-Electro-Mechanics-datasheet-81461590.pdf?src-supplier=Future+Electronics; ComponentLink39URL: https://datasheet.octopart.com:443/CL05A105KO5NNNC-Samsung-datasheet-42280519.pdf?src-supplier=Future+Electronics; ComponentLink39Description: https://datasheet.octopart.com:443/CL05A105KO5NNNC-Samsung-datasheet-42280519.pdf?src-supplier=Future+Electronics; ComponentLink40URL: https://datasheet.octopart.com:443/CL05A105KO5NNNC-Samsung-datasheet-34152987.pdf?src-supplier=Future+Electronics; ComponentLink40Description: https://datasheet.octopart.com:443/CL05A105KO5NNNC-Samsung-datasheet-34152987.pdf?src-supplier=Future+Electronics; ComponentLink41URL: https://datasheet.octopart.com:443/CL05A105KO5NNNC-Samsung-datasheet-8329584.pdf?src-supplier=Future+Electronics; ComponentLink41Description: https://datasheet.octopart.com:443/CL05A105KO5NNNC-Samsung-datasheet-8329584.pdf?src-supplier=Future+Electronics; ComponentLink42URL: https://datasheet.octopart.com:443/CL05A105KO5NNNC-Samsung-Electro-Mechanics-datasheet-149136633.pdf?src-supplier=Future+Electronics; ComponentLink42Description: https://datasheet.octopart.com:443/CL05A105KO5NNNC-Samsung-Electro-Mechanics-datasheet-149136633.pdf?src-supplier=Future+Electronics; ComponentLink43URL: https://datasheet.octopart.com/CL05A105KO5NNNC-Samsung-Electro-Mechanics-datasheet-97040617.pdf; ComponentLink43Description: https://datasheet.octopart.com/CL05A105KO5NNNC-Samsung-Electro-Mechanics-datasheet-97040617.pdf; ComponentLink44URL: https://datasheet.octopart.com/CL05A105KO5NNNC-Samsung-Electro-Mechanics-datasheet-8324245.pdf; ComponentLink44Description: https://datasheet.octopart.com/CL05A105KO5NNNC-Samsung-Electro-Mechanics-datasheet-8324245.pdf; ComponentLink45URL: https://datasheet.octopart.com:443/CL05A105KO5NNNC-Samsung-datasheet-59220082.pdf?src-supplier=TME; ComponentLink45Description: https://datasheet.octopart.com:443/CL05A105KO5NNNC-Samsung-datasheet-59220082.pdf?src-supplier=TME; LCSC Part No: C60474
footprint 0402 capacitor
pins: 1, 2

## CC0805KKX7R7BB105
designator C?, comment 1uF X7R 16V
16V 1uF X7R ±10% 0805 Multilayer Ceramic Capacitors MLCC - SMD/SMT ROHS; Manufacturer: Yageo Group; Manufacturer Part Number: CC0805KKX7R7BB105; Manufacturer Package Identifier: CC0805-0.85; Value: 1µF; Supplier: Future Electronics; Supplier Part Number: CC0805KKX7R7BB105; RoHS: Compliant; Category: Ceramic Capacitors; Stock: 111000; Pricing: 3000=0.0104, 12000=0.010, 45000=0.0097, 90000=0.0095, 225000=0.0091 (USD); Case/Package: 0805; Case Code (Imperial): 0805; Case Code (Metric): 2012; China RoHS: Compliant; Country of Origin: Mainland China, Taiwan; Depth: 1.25mm; Dielectric: X7R; Dielectric Material: Ceramic; Export Control Classification Number (ECCN) Code: EAR99; Halogen Free: Halogen Free; Height: 1.25mm; Harmonized Tariff Schedule (HTS) Code: 8532.24.00.20; Introduction Date: 2009-04-17; Lead Free: Lead Free; Length: 2mm; Lifecycle Status: Production; Material: Ceramic; Max Operating Temperature: 125°C; Min Operating Temperature: -55°C; Mounting Technology: Surface Mount; Pins: 2; Number of Terminals: 2; Radiation Hardening: No; REACH SVHC: Yes; Schedule B: 8532240020, 8532240020|8532240020|8532240020|8532240020|8532240020|8532240020|8532240020|8532240020|8532240020|8532240020|8532240020|8532240020, 8532240020|8532240020|8532240020|8532240020|8532240020|8532240020|8532240020|8532240020|8532240020|8532240020|8532240020|8532240020|8532240020, 8532240020|8532240020|8532240020|8532240020|8532240020|8532240020|8532240020|8532240020|8532240020|8532240020|8532240020|8532240020|8532240020|8532240020; Termination: SMD/SMT; Thickness: 1.2446mm; Tolerance: 10%; Voltage Rating: 16V; Voltage Rating (DC): 16V; Width: 1.25mm; ComponentLink1URL: https://datasheet.octopart.com:443/CC0805KKX7R7BB105-Yageo-datasheet-177165144.pdf?src-supplier=IHS; ComponentLink1Description: https://datasheet.octopart.com:443/CC0805KKX7R7BB105-Yageo-datasheet-177165144.pdf?src-supplier=IHS; ComponentLink2URL: https://datasheet.octopart.com:443/CC0805KKX7R7BB105-Yageo-datasheet-78855689.pdf?src-supplier=Upverter; ComponentLink2Description: https://datasheet.octopart.com:443/CC0805KKX7R7BB105-Yageo-datasheet-78855689.pdf?src-supplier=Upverter; ComponentLink3URL: https://datasheet.octopart.com:443/CC0805KKX7R7BB105-Yageo-Group-datasheet-189192896.pdf?src-supplier=Future+Electronics; ComponentLink3Description: https://datasheet.octopart.com:443/CC0805KKX7R7BB105-Yageo-Group-datasheet-189192896.pdf?src-supplier=Future+Electronics; ComponentLink4URL: https://datasheet.octopart.com:443/CC0805KKX7R7BB105-Yageo-datasheet-166511530.pdf?src-supplier=Future+Electronics; ComponentLink4Description: https://datasheet.octopart.com:443/CC0805KKX7R7BB105-Yageo-datasheet-166511530.pdf?src-supplier=Future+Electronics; ComponentLink5URL: https://datasheet.octopart.com:443/CC0805KKX7R7BB105-Yageo-datasheet-137700082.pdf?src-supplier=Future+Electronics; ComponentLink5Description: https://datasheet.octopart.com:443/CC0805KKX7R7BB105-Yageo-datasheet-137700082.pdf?src-supplier=Future+Electronics; ComponentLink6URL: https://datasheet.octopart.com:443/CC0805KKX7R7BB105-Yageo-datasheet-137700084.pdf?src-supplier=Future+Electronics; ComponentLink6Description: https://datasheet.octopart.com:443/CC0805KKX7R7BB105-Yageo-datasheet-137700084.pdf?src-supplier=Future+Electronics; ComponentLink7URL: https://datasheet.octopart.com:443/CC0805KKX7R7BB105-Yageo-datasheet-27626582.pdf?src-supplier=Future+Electronics; ComponentLink7Description: https://datasheet.octopart.com:443/CC0805KKX7R7BB105-Yageo-datasheet-27626582.pdf?src-supplier=Future+Electronics; ComponentLink8URL: https://datasheet.octopart.com:443/CC0805KKX7R7BB105-Yageo-datasheet-15895757.pdf?src-supplier=Future+Electronics; ComponentLink8Description: https://datasheet.octopart.com:443/CC0805KKX7R7BB105-Yageo-datasheet-15895757.pdf?src-supplier=Future+Electronics; ComponentLink9URL: https://datasheet.octopart.com:443/CC0805KKX7R7BB105-Yageo-datasheet-12526321.pdf?src-supplier=Future+Electronics; ComponentLink9Description: https://datasheet.octopart.com:443/CC0805KKX7R7BB105-Yageo-datasheet-12526321.pdf?src-supplier=Future+Electronics; ComponentLink10URL: https://datasheet.octopart.com:443/CC0805KKX7R7BB105-Yageo-datasheet-10911834.pdf?src-supplier=Future+Electronics; ComponentLink10Description: https://datasheet.octopart.com:443/CC0805KKX7R7BB105-Yageo-datasheet-10911834.pdf?src-supplier=Future+Electronics; ComponentLink11URL: https://datasheet.octopart.com:443/CC0805KKX7R7BB105-Yageo-datasheet-8324442.pdf?src-supplier=Future+Electronics; ComponentLink11Description: https://datasheet.octopart.com:443/CC0805KKX7R7BB105-Yageo-datasheet-8324442.pdf?src-supplier=Future+Electronics; ComponentLink12URL: https://datasheet.octopart.com/CC0805KKX7R7BB105-Yageo-datasheet-10883670.pdf; ComponentLink12Description: https://datasheet.octopart.com/CC0805KKX7R7BB105-Yageo-datasheet-10883670.pdf; ComponentLink13URL: https://datasheet.octopart.com:443/CC0805KKX7R7BB105-Yageo-datasheet-140260305.pdf?src-supplier=SOS+electronic; ComponentLink13Description: https://datasheet.octopart.com:443/CC0805KKX7R7BB105-Yageo-datasheet-140260305.pdf?src-supplier=SOS+electronic; ComponentLink14URL: https://datasheet.octopart.com:443/CC0805KKX7R7BB105-Yageo-datasheet-147453679.pdf?src-supplier=Farnell; ComponentLink14Description: https://datasheet.octopart.com:443/CC0805KKX7R7BB105-Yageo-datasheet-147453679.pdf?src-supplier=Farnell; ComponentLink15URL: https://datasheet.octopart.com:443/CC0805KKX7R7BB105-Yageo-datasheet-181969634.pdf?src-supplier=Farnell; ComponentLink15Description: https://datasheet.octopart.com:443/CC0805KKX7R7BB105-Yageo-datasheet-181969634.pdf?src-supplier=Farnell; ComponentLink16URL: https://datasheet.octopart.com:443/CC0805KKX7R7BB105-Yageo-datasheet-62336348.pdf?src-supplier=element14+APAC; ComponentLink16Description: https://datasheet.octopart.com:443/CC0805KKX7R7BB105-Yageo-datasheet-62336348.pdf?src-supplier=element14+APAC; ComponentLink17URL: https://datasheet.octopart.com:443/CC0805KKX7R7BB105-Yageo-Group-datasheet-165992755.pdf?src-supplier=ODG+(Origin+Data+Global); ComponentLink17Description: https://datasheet.octopart.com:443/CC0805KKX7R7BB105-Yageo-Group-datasheet-165992755.pdf?src-supplier=ODG+(Origin+Data+Global); ComponentLink18URL: https://datasheet.octopart.com:443/CC0805KKX7R7BB105-Yageo-datasheet-151948686.pdf?src-supplier=TME; ComponentLink18Description: https://datasheet.octopart.com:443/CC0805KKX7R7BB105-Yageo-datasheet-151948686.pdf?src-supplier=TME; ComponentLink19URL: https://datasheet.octopart.com:443/CC0805KKX7R7BB105-Yageo-datasheet-8324192.pdf?src-supplier=TME; ComponentLink19Description: https://datasheet.octopart.com:443/CC0805KKX7R7BB105-Yageo-datasheet-8324192.pdf?src-supplier=TME; ComponentLink20URL: https://datasheet.octopart.com:443/CC0805KKX7R7BB105-Yageo-datasheet-120101875.pdf?src-supplier=Megastar; ComponentLink20Description: https://datasheet.octopart.com:443/CC0805KKX7R7BB105-Yageo-datasheet-120101875.pdf?src-supplier=Megastar; ComponentLink21URL: https://datasheet.octopart.com:443/CC0805KKX7R7BB105-Yageo-datasheet-8701427.pdf?src-supplier=element14; ComponentLink21Description: https://datasheet.octopart.com:443/CC0805KKX7R7BB105-Yageo-datasheet-8701427.pdf?src-supplier=element14; ComponentLink22URL: https://datasheet.octopart.com:443/CC0805KKX7R7BB105-Yageo-datasheet-499490.pdf?src-supplier=element14; ComponentLink22Description: https://datasheet.octopart.com:443/CC0805KKX7R7BB105-Yageo-datasheet-499490.pdf?src-supplier=element14; ComponentLink23URL: https://datasheet.octopart.com:443/CC0805KKX7R7BB105-Yageo-datasheet-5301394.pdf?src-supplier=element14; ComponentLink23Description: https://datasheet.octopart.com:443/CC0805KKX7R7BB105-Yageo-datasheet-5301394.pdf?src-supplier=element14; ComponentLink24URL: http://sigma.octopart.com:80/conflict_mineral_statement/Yageo-company-3.pdf?src-supplier=Compliance+Statements; ComponentLink24Description: http://sigma.octopart.com:80/conflict_mineral_statement/Yageo-company-3.pdf?src-supplier=Compliance+Statements; ComponentLink25URL: http://sigma.octopart.com:80/rohs_statement/Yageo-company-2.pdf?src-supplier=Compliance+Statements; ComponentLink25Description: http://sigma.octopart.com:80/rohs_statement/Yageo-company-2.pdf?src-supplier=Compliance+Statements; LCSC Part No: C94122
footprint 0805 CAPACITOR
pins: 1, 2